# Altium schematic symbol library Antenna.SchLib: 5 symbols
Pins are listed as number, name and electrical type; pins without a type are passive.

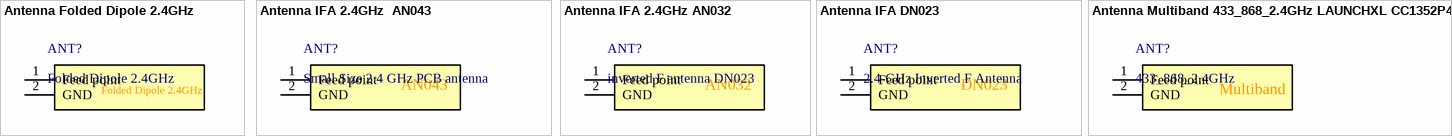
[diagram p0: symbols Antenna Folded Dipole 2.4GHz to Antenna Multiband 433_868_2.4GHz LAUNCHXL CC1352P4]

## Antenna Folded Dipole 2.4GHz
designator ANT?, comment Folded Dipole 2.4GHz
pins: 1 Feed point, 2 GND

## Antenna IFA 2.4GHz  AN043
designator ANT?, comment Small Size 2.4 GHz PCB antenna
footprint Antenna IFA 2.4GHz  AN043 ((Small Size 2.4 GHz PCB antenna)   The PCB antenna on the CC2511 USB dongle reference design is a meandered Inverted F / Antenna (IFA). The IFA was designed to match an impedance of 50 ohm at 2.45 GHz. Thus / no additional matching components are necessary.)
pins: 1 Feed point, 2 GND
text: AN043

## Antenna IFA 2.4GHz AN032
designator ANT?, comment inverted F antenna DN023
footprint Antenna IFA 2.4GHz AN032
pins: 1 Feed point, 2 GND
text: AN032

## Antenna IFA DN023
designator ANT?, comment 2.4-GHz Inverted F Antenna
pins: 1 Feed point, 2 GND
text: DN023

## Antenna Multiband 433_868_2.4GHz LAUNCHXL CC1352P4
designator ANT?, comment 433_868_2.4GHz
Antenna Multiband 433_868_2.4GHz LAUNCHXL CC1352P4
pins: 1 Feed point, 2 GND
text: Multiband